# Altium footprint library APX812-29UG7.PcbLib: 1 footprints
Each footprint in its own frame and in the unit in brackets; x right, y up, seen from the top. Pads: shape width x height; smd on the part's side, far side on the other; paste and mask are expansions set on the pad; w line width, h text height; cw(c..) or ccw(c..) is an arc to the next point about the centre after c.
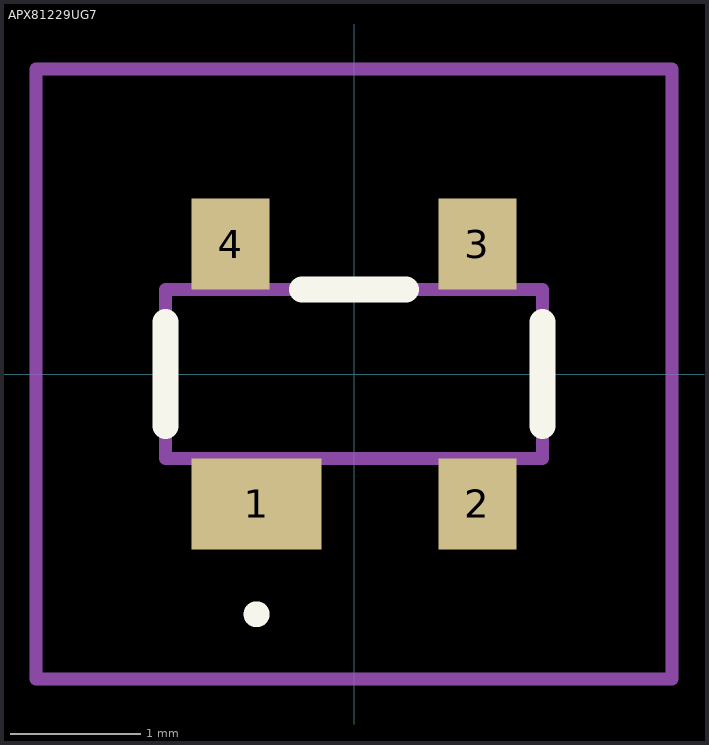
[diagram p0: the footprint, top view; thin cyan lines are the x and y axes]

## APX81229UG7 [mm]
pads (4):
  rect 1x0.7 smd: 1(-0.75,-1)
  rect 0.6x0.7 smd: 2(0.95,-1) 3(0.95,1) 4(-0.95,1)
Top Overlay:
  lines w0.1: -0.75,-1.9 cw(c-0.75,-1.85) -0.75,-1.8 ; -0.75,-1.9 -0.75,-1.9 ; -0.75,-1.9 ccw(c-0.75,-1.85) -0.75,-1.8 ; -0.75,-1.8 -0.75,-1.8
  lines w0.2: -1.45,-0.4 -1.45,0.4 ; -0.4,0.65 0.4,0.65 ; 1.45,-0.4 1.45,0.4
Mechanical 15:
  lines w0.1: -1.45,-0.65 1.45,-0.65 1.45,0.65 -1.45,0.65 -1.45,-0.65
Mechanical 20:
  lines w0.1: -2.45,-2.35 2.45,-2.35 2.45,2.35 -2.45,2.35 -2.45,-2.35